# Altium schematic symbol library GreyCat2K24 - 3.SCHLIB: 24 symbols
Pins are listed as number, name and electrical type; pins without a type are passive.

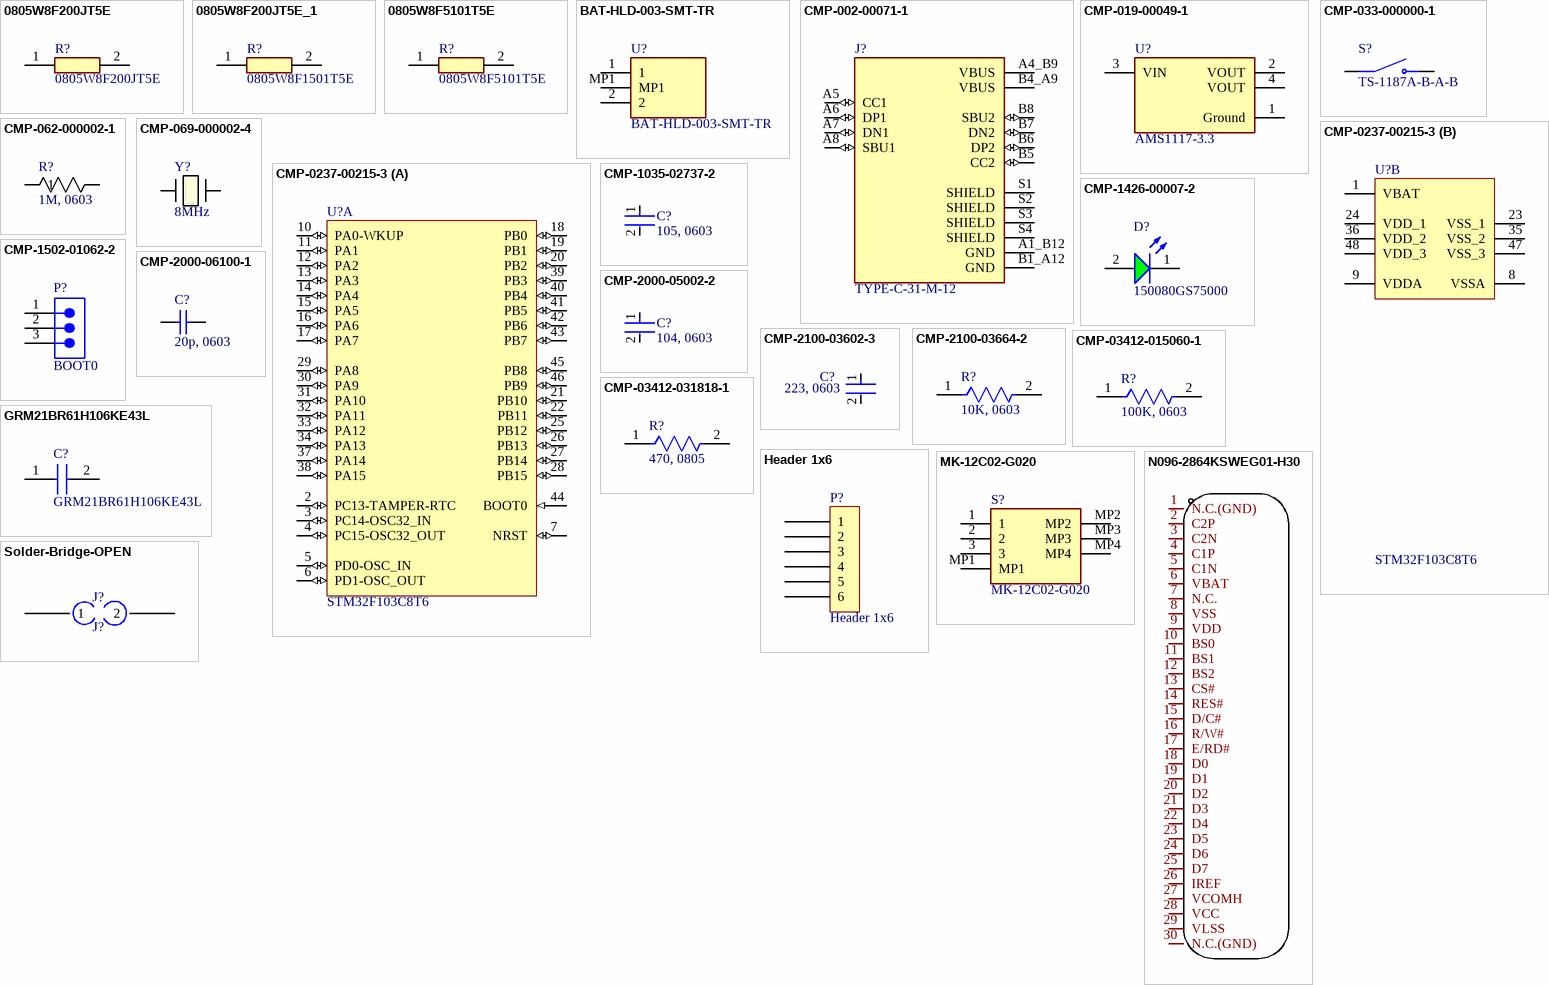
[diagram p0: symbols 0805W8F200JT5E to Solder-Bridge-OPEN]

## 0805W8F200JT5E
designator R?
Resistor; Manufacturer_Name: UNI-ROYAL(Uniroyal Elec); Datasheet Link: https://datasheet.lcsc.com/lcsc/2206010200_UNI-ROYAL-Uniroyal-Elec-0805W8F200JT5E_C17544.pdf; Height: 0.65mm; Manufacturer_Part_Number: 0805W8F200JT5E
footprint RESC2013X65N (Footprint not found)
pins: 1, 2

## 0805W8F200JT5E_1
designator R?, comment 0805W8F1501T5E
Resistor; Manufacturer_Name: UNI-ROYAL(Uniroyal Elec); Height: 0.65mm; Manufacturer_Part_Number: 0805W8F1501T5E
footprint RESC2013X65N
pins: 1, 2

## 0805W8F5101T5E
designator R?
Resistor; Manufacturer_Name: UNI-ROYAL(Uniroyal Elec); Datasheet Link: https://datasheet.lcsc.com/lcsc/2206010030_UNI-ROYAL-Uniroyal-Elec-0805W8F5101T5E_C27834.pdf; Height: 0.65mm; Manufacturer_Part_Number: 0805W8F5101T5E
footprint RESC2013X65N
pins: 1, 2

## BAT-HLD-003-SMT-TR
designator U?
Undefined or Miscellaneous; Manufacturer_Name: Linx Technologies; Datasheet Link: https://linxtechnologies.com/wp/wp-content/uploads/bat-hld-003-smt-ds.pdf; Height: 4.2mm; Manufacturer_Part_Number: BAT-HLD-003-SMT-TR; Mouser Part Number: 712-BAT-HLD-003SMTTR; Mouser Price/Stock: https://www.mouser.co.uk/ProductDetail/Linx-Technologies/BAT-HLD-003-SMT-TR?qs=TuK3vfAjtkVhl445ZsgJ1g%3D%3D
footprint BATHLD003SMTTR
pins: 1, 2, MP1

## CMP-002-00071-1
designator J?, comment TYPE-C-31-M-12
USB Connectors 24 Receptacle 1 8.94*7.3mm RoHS; MF: HRO Electronics Co., Ltd.; Value: *; Price: None; Component Type: Standard; Check_prices: https://www.snapeda.com/parts/TYPE-C-31-M-12/HRO+Electronics+Co.%252C+Ltd./view-part/?ref=eda; MP: TYPE-C-31-M-12; Case/Package: Package; Availability: Not in stock; Design Item ID: TYPE-C-31-M-12; Source: TYPE-C-31-M-12.SchLib; SnapEDA_Link: https://www.snapeda.com/parts/TYPE-C-31-M-12/HRO+Electronics+Co.%252C+Ltd./view-part/?ref=snap; Pins: 16; Component Type: Connectors
footprint HRO_TYPE-C-31-M-12
pins: A1_B12 GND (power), A4_B9 VBUS (power), A5 CC1 (io), A6 DP1 (io), A7 DN1 (io), A8 SBU1 (io), B1_A12 GND (power), B4_A9 VBUS (power), B5 CC2 (io), B6 DP2 (io), B7 DN2 (io), B8 SBU2 (io), S1 SHIELD, S2 SHIELD, S3 SHIELD, S4 SHIELD

## CMP-019-00049-1
designator U?, comment AMS1117-3.3
Fixed Positive LDO Regulator, 3.3V, 1.3V Dropout, PDSO3; Manufacturer: Advanced Monolithic Systems; RoHS Compliant: Yes; Case/Package: SOP; Pins: 3; Manufacturer Part Number: AMS1117-3.3; Component Type: Power Supply
footprint FP-AMS1117-IPC_B
footprint FP-AMS1117-IPC_C
footprint FP-AMS1117-IPC_A
pins: 1 Ground (power), 2 VOUT, 3 VIN (power), 4 VOUT

## CMP-033-000000-1
designator S?, comment TS-1187A-B-A-B
SPST 50mA @ 12VDC Top Actuated Round Button 160gf SMD Tactile Switches RoHS; MP: TS-1187A-B-A-B; Value: *; Design Item ID: TS-1187A-B-A-B; Availability: Unavailable; Package: None; Price: None; Component Type: Standard; Pin Count: 4; Source: TS-1187A-B-A-B.SchLib
footprint SW_TS-1187A-B-A-B
pins: A COM, B COM, C NO, D NO

## CMP-062-000002-1
designator R?, comment 1M, 0603
No Description Available; Manufacturer_Part_Number: CR0603-JW-105GLF; Mfr_Name: Bourns Electronics; Source: CR0603-JW-105GLF.SchLib; RefDes: RefDes; Copyright: Copyright (C) 2024 Ultra Librarian. All rights reserved.; Design Item ID: CR0603-JW-105GLF; Type: DEV
footprint BO_CR0603
pins: 1, 2

## CMP-069-000002-4
designator Y?, comment 8MHz
8MHz 20pF ±10ppm ±50ppm SMD5032-2P Crystals ROHS; Manufacturer_Part_Number: X50328MSB2GI; Mfr_Name: YXC; Copyright: Copyright (C) 2024 Ultra Librarian. All rights reserved.; Type: DEV; Source: X50328MSB2GI.SchLib; Design Item ID: X50328MSB2GI; RefDes: RefDes
footprint XTAL_MSB2GI_YXC
pins: 1, 2

## CMP-0237-00215-3
designator U?, comment STM32F103C8T6
ARM Cortex-M3 32-bit MCU, 64 KB Flash, 20 KB Internal RAM, 37 I/Os, 48-pin LQFP, -40 to 85 degC, Tray; Supply Voltage(Vcc) min (V): 2; Internal RAM Size (kB): 20; FLASH Size (Prog) (kB): 64; A/D Converter: 2x12-bit (10 Channel); I/Os (High Current): 37; Operating Frequency(F) (Processor speed) (MHz): 72; Core: ARM Cortex-M3; ComponentLink3Description: Package Specification; Mounting Technology: Surface Mount; PartNumber: STM32F103C8T6; PackageReference: LQFP48; Packing: Tray; ComponentLink3URL: http://www.st.com/st-web-ui/static/active/en/resource/technical/document/datasheet/DM00058181.pdf; DatasheetVersion: Rev. 16; ComponentLink1URL: http://www.st.com/web/en/home.html; PackageVersion: Rev. 6, 06/2013; ComponentLink2URL: http://www.st.com/st-web-ui/static/active/en/resource/technical/document/datasheet/CD00161566.pdf; ComponentLink1Description: Manufacturer URL; ComponentLink2Description: Datasheet; PackageDescription: 48-Pin Low Profile Quad Flat Package, 7 x 7 mm Body, 0.5 mm Pitch
footprint STM-LQFP48_L (QFP, 48-Leads, Body 7x7mm, Pitch 0.5mm, IPC High Density)
footprint STM-LQFP48_N (QFP, 48-Leads, Body 7x7mm, Pitch 0.5mm, IPC Medium Density)
footprint STM-LQFP48_M (QFP, 48-Leads, Body 7x7mm, Pitch 0.5mm, IPC Low Density)
part A pins: 2 PC13-TAMPER-RTC (io) "PC13-TAMPER-RTC/PC13/TAMPER-RTC", 3 PC14-OSC32_IN (io) "PC14-OSC32_IN/PC14/OSC32_IN", 4 PC15-OSC32_OUT (io) "PC15-OSC32_OUT/PC15/OSC32_OUT", 5 PD0-OSC_IN (io) "PD0/OSC_IN", 6 PD1-OSC_OUT (io) "PD1/OSC_OUT", 7 NRST (io), 10 PA0-WKUP (io) "PA0-WKUP/PA0/WKUP/USART2_CTS/ADC12_IN0/TIM2_CH1_ETR", 11 PA1 (io) "PA1/USART2_RTS/ADC12_IN1/TIM2_CH2", 12 PA2 (io) "PA2/USART2_TX/ADC12_IN2/TIM2_CH3", 13 PA3 (io) "PA3/USART2_RX/ADC12_IN3/TIM2_CH4", 14 PA4 (io) "PA4/SPI1_NSS/USART2_CK/ADC12_IN4", 15 PA5 (io) "PA5/SPI1_SCK/ADC12_IN5", 16 PA6 (io) "PA6/SPI1_MISO/ADC12_IN6/TIM3_CH1/TIM1_BKIN", 17 PA7 (io) "PA7/SPI1_MOSI/ADC12_IN7/TIM3_CH2/TIM1_CH1N", 18 PB0 (io) "PB0/ADC12_IN8/TIM3_CH3/TIM1_CH2N", 19 PB1 (io) "PB1/ADC12_IN9/TIM3_CH4/TIM1_CH3N", 20 PB2 (io) "PB2/BOOT1", 21 PB10 (io) "PB10/I2C2_SCL/USART3_TX/TIM2_CH3", 22 PB11 (io) "PB11/I2C2_SDA/USART3_RX/TIM2_CH4", 25 PB12 (io) "PB12/SPI2_NSS/I2C2_SMBAl/USART3_CK/TIM1_BKIN", 26 PB13 (io) "PB13/SPI2_SCK/USART3_CTS/TIM1_CH1N", 27 PB14 (io) "PB14/SPI2_MISO/USART3_RTS/TIM1_CH2N", 28 PB15 (io) "PB15/SPI2_MOSI/TIM1_CH3N", 29 PA8 (io) "PA8/USART1_CK/TIM1_CH1/MCO", 30 PA9 (io) "PA9/USART1_TX/TIM1_CH2", 31 PA10 (io) "PA10/USART1_RX/TIM1_CH3", 32 PA11 (io) "PA11/USART1_CTS/CANRX/USBDM/TIM1_CH4", 33 PA12 (io) "PA12/USART1_RTS/CANTX/USBDP/TIM1_ETR", 34 PA13 (io) "PA13/JTMS/SWDIO", 37 PA14 (io) "PA14/JTCK/SWCLK", 38 PA15 (io) "PA15/JTDI/TIM2_CH1_ETR/SPI1_NSS", 39 PB3 (io) "PB3/JTDO/TIM2_CH2/TRACESWO/SPI1_SCK", 40 PB4 (io) "PB4/NJTRST/TIM3_CH1/SPI1_MISO", 41 PB5 (io) "PB5/I2C1_SMBAI/TIM3_CH2/SPI1_MOSI", 42 PB6 (io) "PB6/I2C1_SCL/TIM4_CH1/USART1_TX", 43 PB7 (io) "PB7/I2C1_SDA/TIM4_CH2/USART1_RX", 44 BOOT0 (in), 45 PB8 (io) "PB8/TIM4_CH3/I2C1_SCL/CANRX", 46 PB9 (io) "PB9/TIM4_CH4/I2C1_SDA/CANTX"
part B pins: 1 VBAT (power), 8 VSSA (power), 9 VDDA (power), 23 VSS_1 (power), 24 VDD_1 (power), 35 VSS_2 (power), 36 VDD_2 (power), 47 VSS_3 (power), 48 VDD_3 (power)

## CMP-1035-02737-2
designator C?, comment 105, 0603
CAP CER 1UF 16V X5R 0603; Manufacturer Part Number: CC0603KRX5R7BB105; Manufacturer: YAGEO; Material: Ceramic; Temperature Coefficient: 15%; Tolerance: 0.1; Digikey Description: CAP CER 1UF 16V X5R 0603; Category: Cap; Automotive: No; Octopart: https://octopart.com/cc0603krx5r7bb105-yageo-8376530; Voltage Rating: 16 V; Device Class L3: Ceramic Capacitors; Value: 1 uF; Temperature Characteristic: X5R; Voltage: 16 V; RoHS: TRUE; Lead Free: Yes; Temperature: -55°C to +125°C; Device Class L2: Capacitors; ComponentLink2URL: http://www.yageo.com/documents/recent/UPY-GPHC_X7R_6.3V-to-50V_18.pdf; Capacitance: 1 uF; Footprint Url: http://www.yageo.com/exep/pages/download/literatures/UPY-C_GEN_24.pdf; Height: 0.9mm; ComponentLink2Description: Datasheet; Temperature Range High: +125°C; Mouser Description: Multilayer Ceramic Capacitors MLCC - SMD/SMT 1.0uF 16V X5R 10%; Package: CC0603-DA; Device Class L1: Passive Components; Temperature Range Low: -55°C
footprint FP-CC0603-DA-MFG
footprint FP-CC0603-DA-IPC_C
footprint FP-CC0603-DA-IPC_B
footprint FP-CC0603-DA-IPC_A
pins: 1, 2

## CMP-1426-00007-2
designator D?, comment 150080GS75000
NexarPartId: 29717780; Wavelength: 520nm; Forward Current: 100mA; Lens Style: Clear, Rectangular; Dominant Wavelength: 525nm; Max Junction Temperature (Tj): 95°C; Power Dissipation: 105mW; Luminous Intensity: 450mcd; Peak Wavelength: 515nm; Color: Green; Viewing Angle: 140°; Test Current: 20mA; Reverse Voltage: 5V; Forward Voltage: 3.2V; Mount: Surface Mount; REACH SVHC: Unknown; Min Operating Temperature: -40°C; Case Code (Imperial): 0805; Case/Package: 0805; Max Operating Temperature: 85°C; RoHS: Compliant; Length: 2mm; Height: 700µm; Width: 1.25mm; Case Code (Metric): 2012; Packaging: Tape and Reel; Max Reverse Voltage (DC): 5V
footprint WL-SMCW_0805_150080xx75000 (WL-SMCW SMT Mono-Color Chip LED Waterclear)
pins: 1 K, 2 A

## CMP-1502-01062-2
designator P?, comment BOOT0
NexarPartId: 32855521; Voltage Rating: 250V; Current Rating: 3A; Connector Type: Male Pin; Number of Positions: 3; Gender: Male; Contact Resistance: 20mΩ; Pitch: 2.54mm; Max Operating Temperature: 105°C; Lead Pitch: 2.54mm; Lead Free: Lead Free; Contact Mating Length: 5.9944mm; Contact Material: Copper; Number of Pins: 3; Orientation: Vertical; Height: 8.94mm; Packaging: Bulk; Min Operating Temperature: -40°C; Mount: Through Hole; RoHS: Compliant; Number of Contacts: 3; Operating Supply Voltage: 250V; Termination: Solder; Number of Rows: 1; Contact Plating: Gold; Color: Black; REACH SVHC: Unknown
footprint 61300311121 (THT Vertical Pin Header WR-PHD, Pitch 2.54 mm, Single Row, 3 pins)
pins: 1, 2, 3

## CMP-2000-05002-2
designator C?, comment 104, 0603
CAP CER 0.1UF 16V X7R 0603; Manufacturer Part Number: CC0603KRX7R7BB104; Manufacturer: YAGEO; Tolerance: 0.1; Value: 100 nF; Temperature Coefficient: 15%; Material: Ceramic; Voltage Rating: 16 V; Package: CC0603-DA; ComponentLink2Description: Datasheet; Octopart: https://octopart.com/cc0603krx7r7bb104-yageo-192941; Temperature Range High: +125°C; Digikey Description: CAP CER 0.1UF 16V X7R 0603; Voltage: 16 V; Device Class L2: Capacitors; Height: 0.9mm; Temperature: -55°C to +125°C; Device Class L1: Passive Components; Device Class L3: Ceramic Capacitors; ComponentLink2URL: http://www.yageo.com/documents/recent/UPY-GPHC_X7R_6.3V-to-50V_18.pdf; Footprint Url: http://www.yageo.com/exep/pages/download/literatures/UPY-C_GEN_24.pdf; RoHS: TRUE; Temperature Range Low: -55°C; Temperature Characteristic: X7R; Lead Free: Yes; Capacitance: 100 nF; Category: Cap; Mouser Description: Multilayer Ceramic Capacitor, CC Series, 0.1 - F, - 10%, X7R, 16 V, 0603 [1608 Metric]; Automotive: No
footprint FP-CC0603-DA-MFG
footprint FP-CC0603-DA-IPC_C
footprint FP-CC0603-DA-IPC_B
footprint FP-CC0603-DA-IPC_A
pins: 1, 2

## CMP-2000-06100-1
designator C?, comment 20p, 0603
Chip Capacitor, 20 pF, +/- 5%, 50 V, -55 to 85 degC, 0603 (1608 Metric), RoHS, Tape and Reel; Manufacturer: Samsung Electro-Mechanics; Dielectric: C0G; Rated Voltage: 50V; Capacitance: 20pF; Tolerance (%): ±5%; Case Size/Dimension: 0603; Datasheet Version: 06/2016; Manufacturer URL: http://www.samsungsem.com/global/index.jsp; Datasheet URL: http://www.samsungsem.com/kr/support/product-search/mlcc/__icsFiles/afieldfile/2016/08/18/S_CL10C200JB8NNNC.pdf; Mounting Technology: SurfaceMount; Package Description: 2-Pin Surface Mount Device, Body 1.60 x 0.80 mm; Package Reference: 0603
footprint CAPC1608X90X30LL10T20 (Chip Capacitor, 2-Leads, Body 1.70x0.90mm, IPC High Density)
footprint CAPC1608X90X30ML10T20 (Chip Capacitor, 2-Leads, Body 1.70x0.90mm, IPC Low Density)
footprint CAPC1608X90X30NL10T20 (Chip Capacitor, 2-Leads, Body 1.70x0.90mm, IPC Medium Density)
pins: 1, 2

## CMP-2100-03602-3
designator C?, comment 223, 0603
CAP CER 0.022UF 50V X7R 0603; Dielectric Material: Ceramic; Insulation Resistance: 100GR; Tolerance: 10%; Capacitance: 22nF; Thickness: 0.035inch; Case/Package: 0603; Packaging: Tape and Reel; Voltage Rating (DC): 50V; Length: 1.6mm; Depth: 0.8mm; Dielectric: X7R; Resistor Type: Ceramic; Min Operating Temperature: -55°C; Number of Pins: 2; Series: CC; Mount: Surface Mount; Max Operating Temperature: 125°C; Case Code (Imperial): 0603; Width: 0.031inch; Halogen Free: Halogen Free; Lead Free: Lead Free; Voltage: 50V; RoHS Compliant: Yes; Package Quantity: 1; Height: 0.8mm; REACH SVHC: No SVHC; Voltage Rating: 50V; Case Code (Metric): 1608; Termination: SMD/SMT; Radiation Hardening: No
footprint FP-CC0603-DA-MFG
footprint FP-CC0603-DA-IPC_C
footprint FP-CC0603-DA-IPC_B
footprint FP-CC0603-DA-IPC_A
pins: 1, 2

## CMP-2100-03664-2
designator R?, comment 10K, 0603
RES 10K OHM 1% 1/10W 0603; Voltage Rating: 75V; Voltage Rating (DC): 50V; Resistance: 10kR; Power Rating: 100mW; Temperature Coefficient: 100ppm/°C; Depth: 0.8mm; Termination: SMD/SMT; Resistor Type: Thick Film; Series: RC; Construction: Rectangular; Features: Moisture Resistant; Packaging: Tape and Reel; Min Operating Temperature: -55°C; Number of Terminations: 2; Lead Pitch: 0.3mm; RoHS Compliant: Yes; Case/Package: 0603; Resistance Tolerance: 1%; Military Standard: Not; Weight: 7.1E-05oz; Number of Pins: 2; Tolerance: 1%; Length: 1.6mm; Case Code (Imperial): 0603; Lead Free: Lead Free; Width: 0.8mm; Max Power Dissipation: 100mW; Height: 0.45mm; Max Operating Temperature: 155°C; Case Code (Metric): 1608; Size Code: 0603
footprint FP-RC0603-0_55-IPC_C
footprint FP-RC0603-0_55-IPC_B
footprint FP-RC0603-0_55-MFG
footprint FP-RC0603-0_55-IPC_A
pins: 1, 2

## CMP-03412-015060-1
designator R?, comment 100K, 0603
RES SMD 100K OHM 1% 1/10W 0603; Manufacturer: Yageo; Manufacturer Part Number: RT0603FRE07100KL; Tolerance: 0.01; Resistance: 100KΩ; Temperature Coefficient: 50 ppm/°C; Value: 100KΩ; Power Rating: 0.1W; Voltage Rating: 75V; Temperature: -55°C to +155°C; Height: 0.55mm; Octopart: https://octopart.com/rt0603fre07100kl-yageo-41455806; Ipc Land Pattern Name: RESC16080X45; Lead Free: Yes; Device Class L1: Passive Components; Temperature Range Low: -55°C; Temperature Range High: +155°C; Category: Res; Composition: Thin Film; Device Class L3: Chip SMD Resistors; Digikey Description: RES SMD 100K OHM 1% 1/10W 0603; Package: RT0603; Automotive: No; Mouser Description: High Precision-High Stability Chip Resistor Thin Film 0603 100kOhm 1% Paper T/R; Footprint Url: http://www.yageo.com/exep/pages/download/literatures/PYu-R_Mount_10.pdf; ComponentLink2Description: Datasheet; Series: RT; ComponentLink2URL: http://www.yageo.com/documents/recent/PYu-RT_1-to-0.01_RoHS_L_9.pdf; Device Class L2: Resistors; RoHS: TRUE
footprint FP-RT0603-MFG
footprint FP-RT0603-IPC_C
footprint FP-RT0603-IPC_B
footprint FP-RT0603-IPC_A
pins: 1, 2

## CMP-03412-031818-1
designator R?, comment 470, 0805
RES SMD 470 OHM 1% 1/8W 0805; Manufacturer Part Number: RT0805FRE07470RL; Manufacturer: Yageo; Temperature Coefficient: 50 ppm/°C; Value: 470Ω; Tolerance: 0.0001; Voltage Rating: 150V; Power Rating: 0.125W; Automotive: No; Device Class L2: Resistors; Lead Free: Yes; Digikey Description: RES SMD 470 OHM 1% 1/8W 0805; Category: Res; Package: RT0805; ComponentLink2Description: Datasheet; Ipc Land Pattern Name: RESC200125X50; Resistance: 470Ω; Octopart: https://octopart.com/rt0805fre07470rl-yageo-39983328; Height: 0.6mm; Temperature Range High: +155°C; Composition: Thin Film; Footprint Url: http://www.yageo.com/exep/pages/download/literatures/PYu-R_Mount_10.pdf; Device Class L1: Passive Components; Temperature Range Low: -55°C; Temperature: -55°C to +155°C; RoHS: TRUE; ComponentLink2URL: http://www.yageo.com/documents/recent/PYu-RT_1-to-0.01_RoHS_L_9.pdf; Mouser Description: High Precision-High Stability Chip Resistor Thin Film 0805 470Ohm 1% Paper T/R; Device Class L3: Chip SMD Resistors; Series: RT
footprint FP-RT0805-MFG
footprint FP-RT0805-IPC_C
footprint FP-RT0805-IPC_B
footprint FP-RT0805-IPC_A
pins: 1, 2

## GRM21BR61H106KE43L
designator C?
Capacitor; Manufacturer_Name: Murata Electronics; Datasheet Link: https://search.murata.co.jp/Ceramy/image/img/A01X/G101/ENG/GRM21BR61H106KE43-01A.pdf; Height: 1.25mm; Manufacturer_Part_Number: GRM21BR61H106KE43L; Mouser Part Number: 81-GRM21BR61H106KE3L; Mouser Price/Stock: https://www.mouser.co.uk/ProductDetail/Murata-Electronics/GRM21BR61H106KE43L?qs=lYGu3FyN48cBZlIduWKclg%3D%3D; Arrow Part Number: GRM21BR61H106KE43L; Arrow Price/Stock: https://www.arrow.com/en/products/grm21br61h106ke43l/murata-manufacturing?region=europe
footprint GRM21x
pins: 1, 2

## Header 1x6
designator P?
footprint Header 1x6 male (2.54mm)
footprint 1x6_debug (2.54mm)
pins: 1, 2, 3, 4, 5, 6

## MK-12C02-G020
designator S?
Switch; Manufacturer_Name: G-Switch Electronic; Datasheet Link: https://datasheet.lcsc.com/lcsc/2012062037_G-Switch-MK-12C02-G020_C963206.pdf; Height: 1.45mm; Manufacturer_Part_Number: MK-12C02-G020
footprint MK12C02G020
pins: 1, 2, 3, MP1, MP2, MP3, MP4

## N096-2864KSWEG01-H30
designator OLED?  (value not drawn)
Manufacturer: Newvision(新智景); Add into BOM: yes; Main Control Chip: SSD1306; Symbol: N096-2864KSWEG01-H30; Device: N096-2864KSWEG01-H30; Supplier: LCSC; Supplier Part: C2890596; Manufacturer Part: N096-2864KSWEG01-H30; JLCPCB Part Class: Extended Part; LCSC Part Name: 0.96寸 白色 128x64像素分辨率 单色 30PIN; Supplier Footprint: -; Convert to PCB: yes; Size: 0.96
footprint N096-2864KSWEG01-H30 (https://jlcpcb.com/partdetail/Newvisio-N096_2864KSWEG01H30/C2890596 / OLED SSD1306)
pins: 1 N.C.(GND), 2 C2P, 3 C2N, 4 C1P, 5 C1N, 6 VBAT, 7 N.C., 8 VSS, 9 VDD, 10 BS0, 11 BS1, 12 BS2, 13 CS#, 14 RES#, 15 D/C#, 16 R/W#, 17 E/RD#, 18 D0, 19 D1, 20 D2, 21 D3, 22 D4, 23 D5, 24 D6, 25 D7, 26 IREF, 27 VCOMH, 28 VCC, 29 VLSS, 30 N.C.(GND)

## Solder-Bridge-OPEN
designator J?, comment J?
footprint SOLDER_BRIDGE_OPEN
pins: 1, 2